# EAGLE library part BMX055 (library quentin)
IMUs - Inertial Measurement Units Absolute Orientation 9-Axis Sensor
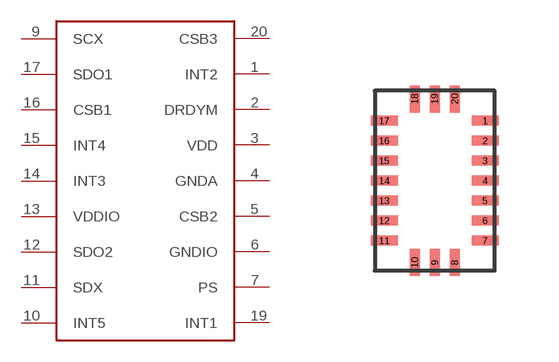
[diagram p4: symbol with the pads of LGA-20; footprint LGA-20]

Designator prefix -

## BMX055  [LGA-20]
1  INT2
2  DRDYM
3  VDD
4  GNDA
5  CSB2
6  GNDIO
7  PS
9  SCX
10  INT5
11  SDX
12  SDO2
13  VDDIO
14  INT3
15  INT4
16  CSB1
17  SDO1
19  INT1
20  CSB3

## Footprint LGA-20 (pad centres in mm)
smd 0.675 x 0.25: 1 1.262,1.5; 2 1.262,1; 3 1.262,0.5; 4 1.262,0; 5 1.262,-0.5; 6 1.262,-1; 7 1.262,-1.5; 11 -1.262,-1.5; 12 -1.262,-1; 13 -1.262,-0.5; 14 -1.262,0; 15 -1.262,0.5; 16 -1.262,1; 17 -1.262,1.5
smd 0.25 x 0.675: 8 0.5,-2.049; 9 0,-2.049; 10 -0.5,-2.049; 18 -0.5,2.049; 19 0,2.049; 20 0.5,2.049